# Altium schematic symbol library Switches.SchLib: 2 symbols
Pins are listed as number, name and electrical type; pins without a type are passive.

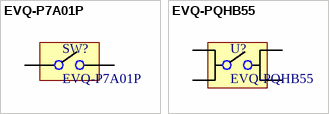
[diagram p0: symbols EVQ-P7A01P to EVQ-PQHB55]

## EVQ-P7A01P
designator SW?
Tactile Switches 3.5x2.9mm Right Ang Light Touch Switch; Supplier 1: Digi-Key; Supplier 2: Mouser; Supplier 3: Arrow; Supplier Part Number 1: P16763CT-ND; Supplier Part Number 2: 667-EVQP7A01P; Supplier Part Number 3: EVQ-P7A01P
footprint EVQ-PQHB55
pins: A, B

## EVQ-PQHB55
designator U?
Tactile Switch; Supplier 1: Digi-Key; Supplier Part Number 1: P8090SCT-ND; Supplier 2: Arrow; Supplier Part Number 2: Cq_JCPF7sVoEzU-FUh_XkitJJs92fI9TdizfQuQyw6Q
footprint EVQ-PQHB55
pins: 1 A, 2 B, 3 C, 4 D